# Altium footprint library NVD5117PLT4G-VF01.PcbLib: 1 footprints
Each footprint in its own frame and in the unit in brackets; x right, y up, seen from the top. Pads: shape width x height; smd on the part's side, far side on the other; paste and mask are expansions set on the pad; w line width, h text height; cw(c..) or ccw(c..) is an arc to the next point about the centre after c.
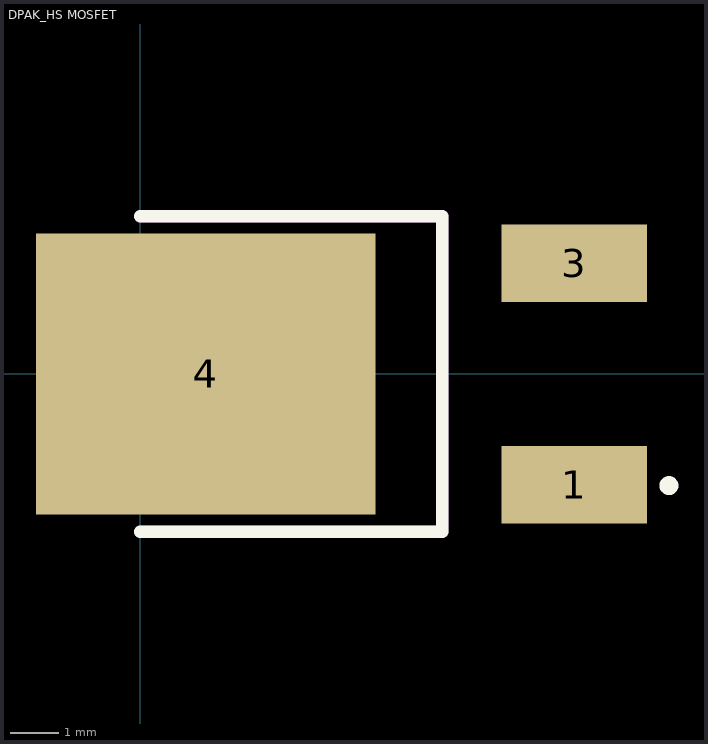
[diagram p0: the footprint, top view; thin cyan lines are the x and y axes]

## DPAK_HS MOSFET [mm]
pads (3):
  rect 3x1.6 smd: 1(8.95,-2.285) 3(8.95,2.285)
  rect 7x5.8 smd: 4(1.35,0)
Top Overlay:
  circle w0.254: c10.9,-2.3 r0.068
  lines w0.254: 0,-3.25 6.225,-3.25 6.225,3.25 0,3.25
Mechanical 13:
  lines w0.254: 0,-3.25 6.225,-3.25 6.225,3.25 0,3.25
3D body "TO-252AA-IRF.stp": height 2.44, standoff 0.05, extent -1.032,-3.356 9.382,3.356